# Altium schematic symbol library Motor_Driver.SchLib: 1 symbol
Pins are listed as number, name and electrical type; pins without a type are passive.

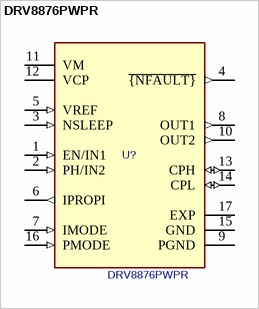
[diagram p0: symbol DRV8876PWPR]

## DRV8876PWPR
designator U?  value DRV8876PWPR  (hidden comment: *)
H-Bridge Motor Driver With Integrated Current Sense and Regulation; Manufacturer: Texas Instruments; Manufacturer Lifecycle Status: ACTIVE; Reference: U; Max Junction Temperature (Tj): 150°C; Max Supply Voltage: 37V; Min Supply Voltage: 4.5V; Motor Type: Brushed; Number of Outputs: 2; Output Current: 3.5A; Switching Frequency: 100kHz; Datasheet: https://www.ti.com/product/DRV8876?dcmp=dsproject&hqs=pf; Description_: H-Bridge Motor Driver With Integrated Current Sense and Regulation; ki_keywords: H-Bridge Motor Driver; DNP: *; Ambient Temperature Range High: 125°C; Category: Motor Drivers; Height: 1.2mm; Length: 5mm; Lifecycle Status: Production; Manufacturer Part Number: DRV8876PWPR; Max Operating Temperature: 125°C; Min Operating Temperature: -40°C; Pins: 16; RoHS: Compliant; Schedule B: 8542390000, 8542390000|8542390000|8542390000|8542390000|8542390000; Thickness: 1mm; Width: 4.4mm; Supplier 1: Mouser; Supplier Part Number 1: 595-DRV8876PWPR; Supplier Packaging 1: Tape & Reel; Supplier Unit Price 1: $1.95; Supplier Location 1: US
footprint HTSSOP-16-1EP_4.4x5mm_P0.65mm_EP3x3mm
pins: 1 EN/IN1 (in), 2 PH/IN2 (in), 3 NSLEEP (in), 4 ~{{NFAULT}} (out), 5 VREF (in), 6 IPROPI (out), 7 IMODE (in), 8 OUT1 (out), 9 PGND (power), 10 OUT2 (out), 11 VM (power), 12 VCP (power), 13 CPH (io), 14 CPL (io), 15 GND (power), 16 PMODE (in), 17 EXP